# EAGLE library part BQ24040DSQ (library Deegou_IC)
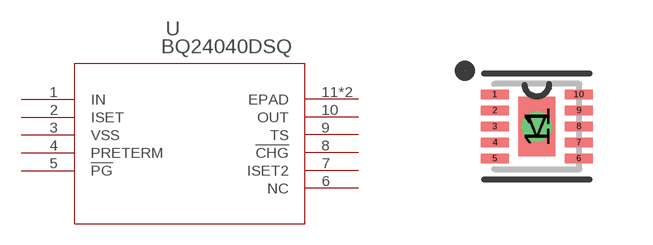
[diagram p159: symbol with the pads of DSQ10_P9X1P5; footprint DSQ10_P9X1P5]

Designator prefix U

## BQ24040DSQ (DATASHEETURL: httpwww.ti.comlitgpnBQ24040; FAMILY_NAME: BATTERY CHARGE MANAGEMENT; GENERIC_PART_NUMBER: BQ24040; INDUSTRY_STD_PKG_TYPE: SON; MANUFACTURER: Texas Instruments; PACKAGE_DESIGNATOR: DSQ; PIN_COUNT: 10)  [DSQ10_P9X1P5]
1  IN  in
2  ISET  in
3  VSS  pwr
4  PRETERM  in
5  !PG  out
6  NC  nc
7  ISET2  in
8  !CHG  out
9  TS  in
10  OUT  out
11  EPAD  pwr
V  EPAD  pwr

## Footprint DSQ10_P9X1P5 (pad centres in mm)
smd 0.7 x 0.23: 1 -1.05,0.8; 2 -1.05,0.4; 3 -1.05,0; 4 -1.05,-0.4; 5 -1.05,-0.8; 6 1.05,-0.8; 7 1.05,-0.4; 8 1.05,0; 9 1.05,0.4; 10 1.05,0.8
smd 0.914 x 1.499: 11 0,0
drill 0.254 pad 0.508: V 0,0